# EAGLE library part DS1307 (library FansElectronics-Modul)
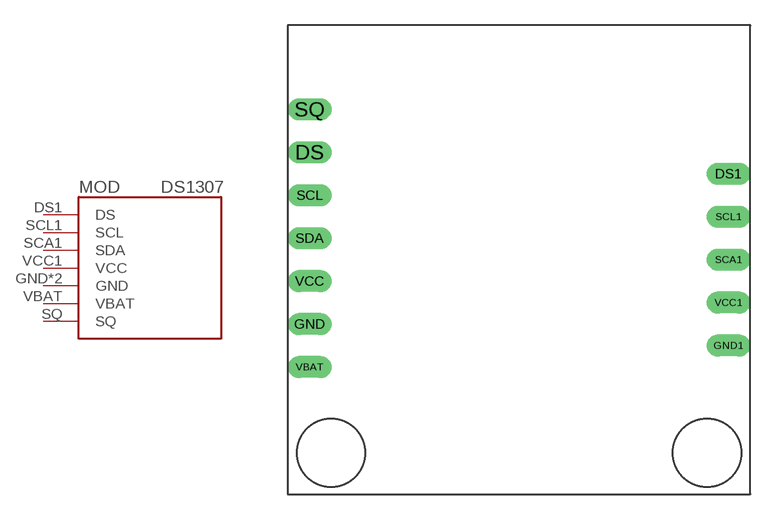
[diagram p7: symbol with the pads of DS1307; footprint DS1307]

Designator prefix MOD

## DS1307  [DS1307]
DS1  DS
GND  GND  pwr
GND1  GND  pwr
SCA1  SDA
SCL1  SCL
SQ  SQ
VBAT  VBAT
VCC1  VCC  pwr

## Footprint DS1307 (pad centres in mm)
drill 0.8 long: DS -12.7,6.35; DS1 12.065,5.08; GND -12.7,-3.81; GND1 12.065,-5.08; SCA1 12.065,0; SCL -12.7,3.81; SCL1 12.065,2.54; SDA -12.7,1.27; SQ -12.7,8.89; VBAT -12.7,-6.35; VCC -12.7,-1.27; VCC1 12.065,-2.54